# EAGLE library part IO_MODUL (library bitrecords)
Footprint für die BitRecords IO Module (USB2.0, Ethernet, WLAN, ...)
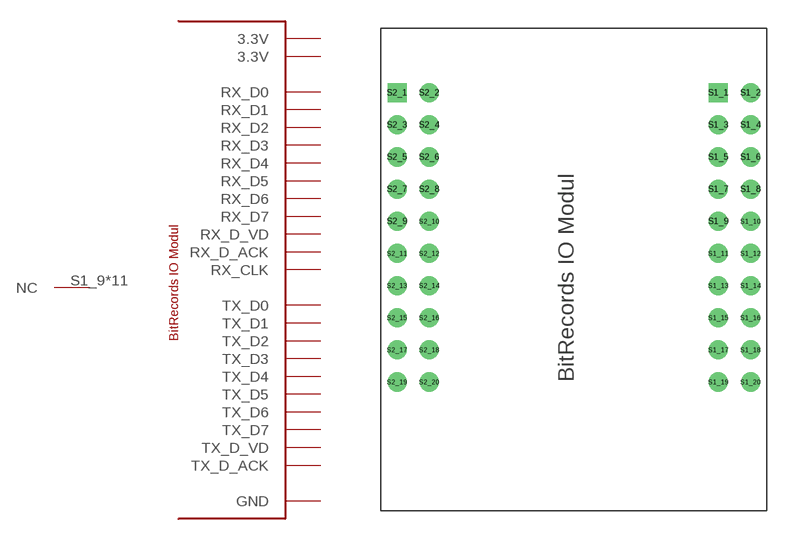
[diagram p2: symbol with the pads of IO_MODUL; footprint IO_MODUL]

Designator prefix MODUL; gates G$1=IO_MODUL G$2=NC

## IO_MODUL  [IO_MODUL]
S1_1  G$1:3.3V  pwr
S1_2  G$1:RX_D_ACK
S1_3  G$1:GND  pwr
S1_4  G$1:RX_D_VD
S1_5  G$1:RX_CLK
S1_6  G$1:RX_D0
S1_7  G$1:GND  pwr
S1_8  G$1:RX_D1
S1_9  G$2:NC  nc
S1_10  G$1:RX_D2
S1_11  G$2:NC  nc
S1_12  G$1:RX_D3
S1_13  G$1:GND  pwr
S1_14  G$1:RX_D4
S1_15  G$2:NC  nc
S1_16  G$1:RX_D5
S1_17  G$2:NC  nc
S1_18  G$1:RX_D6
S1_19  G$2:NC  nc
S1_20  G$1:RX_D7
S2_1  G$1:TX_D_ACK
S2_2  G$1:3.3V  pwr
S2_3  G$1:TX_D_VD
S2_4  G$1:GND  pwr
S2_5  G$1:TX_D0
S2_6  G$2:NC  nc
S2_7  G$1:TX_D1
S2_8  G$1:GND  pwr
S2_9  G$1:TX_D2
S2_10  G$2:NC  nc
S2_11  G$1:TX_D3
S2_12  G$2:NC  nc
S2_13  G$1:TX_D4
S2_14  G$1:GND  pwr
S2_15  G$1:TX_D5
S2_16  G$2:NC  nc
S2_17  G$1:TX_D6
S2_18  G$2:NC  nc
S2_19  G$1:TX_D7
S2_20  G$2:NC  nc

## Footprint IO_MODUL (pad centres in mm)
drill 1 square: S1_1 12.7,12.7; S2_1 -12.7,12.7
drill 1: S1_2 15.24,12.7; S1_3 12.7,10.16; S1_4 15.24,10.16; S1_5 12.7,7.62; S1_6 15.24,7.62; S1_7 12.7,5.08; S1_8 15.24,5.08; S1_9 12.7,2.54; S1_10 15.24,2.54; S1_11 12.7,0; S1_12 15.24,0; S1_13 12.7,-2.54; S1_14 15.24,-2.54; S1_15 12.7,-5.08; S1_16 15.24,-5.08; S1_17 12.7,-7.62; S1_18 15.24,-7.62; S1_19 12.7,-10.16; S1_20 15.24,-10.16; S2_2 -10.16,12.7; S2_3 -12.7,10.16; S2_4 -10.16,10.16; S2_5 -12.7,7.62; S2_6 -10.16,7.62; S2_7 -12.7,5.08; S2_8 -10.16,5.08; S2_9 -12.7,2.54; S2_10 -10.16,2.54; S2_11 -12.7,0; S2_12 -10.16,0; S2_13 -12.7,-2.54; S2_14 -10.16,-2.54; S2_15 -12.7,-5.08; S2_16 -10.16,-5.08; S2_17 -12.7,-7.62; S2_18 -10.16,-7.62; S2_19 -12.7,-10.16; S2_20 -10.16,-10.16